# EAGLE library part IC-ULN2003A (library - Jins eagle lbr)
DRIVER ARRAY
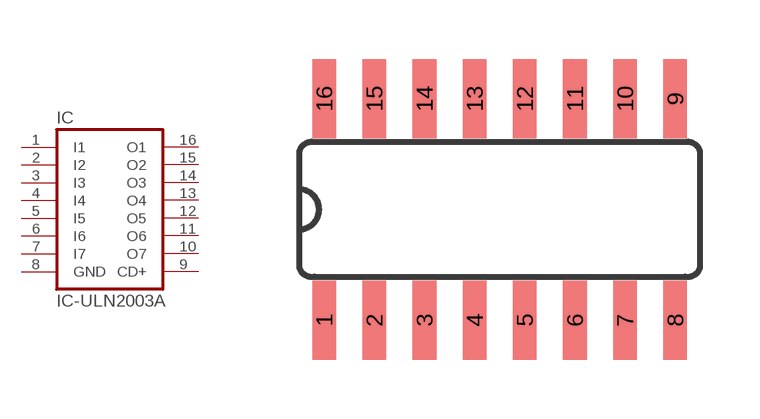
[diagram p14: symbol with the pads of SOP-16; footprint SOP-16]

Designator prefix IC

## IC-ULN2003AS  [SOP-16]
1  I1  in
2  I2  in
3  I3  in
4  I4  in
5  I5  in
6  I6  in
7  I7  in
8  GND  pwr
9  CD+  pas
10  O7  oc
11  O6  oc
12  O5  oc
13  O4  oc
14  O3  oc
15  O2  oc
16  O1  oc

## Footprint SOP-16 (pad centres in mm)
smd 0.6 x 2: 1 -3.945,-2.76; 2 -2.675,-2.76; 3 -1.405,-2.76; 4 -0.135,-2.76; 5 1.135,-2.76; 6 2.405,-2.76; 7 3.675,-2.76; 8 4.945,-2.76; 9 4.945,2.84; 10 3.675,2.84; 11 2.405,2.84; 12 1.135,2.84; 13 -0.135,2.84; 14 -1.405,2.84; 15 -2.675,2.84; 16 -3.945,2.84